# EAGLE library part 794681-8 (library con-amp_edit)
Micro MATE-N-LOK Connectors grid 1.5mm Dual Row Through Hole Vertical Metal Through Hole Holddowns Source: ENG_CD_794681_E.pdf
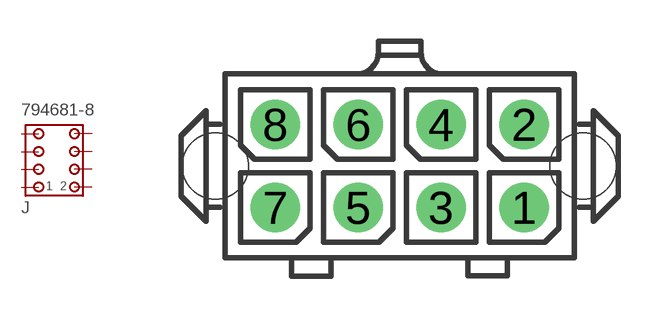
[diagram p160: symbol with the pads of 794681-8; footprint 794681-8]

Designator prefix J

## 794681-8  [794681-8]
1  1  pas
2  2  pas
3  3  pas
4  4  pas
5  5  pas
6  6  pas
7  7  pas
8  8  pas

## Footprint 794681-8 (pad centres in mm)
Micro MATE-N-LOK Connectors grid 1.5mm Dual Row Through Hole Vertical Metal Through Hole Holddowns Source: ENG_CD_794681_E.pdf
drill 1 pad 1.778: 1 4.5,-1.5; 2 4.5,1.5; 3 1.5,-1.5; 4 1.5,1.5; 5 -1.5,-1.5; 6 -1.5,1.5; 7 -4.5,-1.5; 8 -4.5,1.5
hole 2.4 at 6.63,0
hole 2.4 at -6.67,0